# Altium integrated library CL05B104KP5NNNC.IntLib: 1 symbol
Pins are listed as number, name and electrical type; pins without a type are passive.

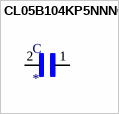
[diagram p0: symbol CL05B104KP5NNNC]

## CL05B104KP5NNNC
designator C
0.1ÂµF Â±10% 10V Ceramic Capacitor X7R 0402 _1005 Metric_; MP: CL05B104KP5NNNC; MF: Samsung Electro-Mechanics; Availability: Unavailable; SnapEDA_Link: https://www.snapeda.com/parts/CL05B104KP5NNNC/Samsung%20Electro-Mechanics/view-part/1365387/?ref=snap; Package: 0402 Samsung; Price: None; Value: *
footprint CAPC1005X55N
pins: 1, 2